# Altium footprint library PcbLib1.PcbLib: 4 footprints
Each footprint in its own frame and in the unit in brackets; x right, y up, seen from the top. Pads: shape width x height; smd on the part's side, far side on the other; paste and mask are expansions set on the pad; w line width, h text height; cw(c..) or ccw(c..) is an arc to the next point about the centre after c.
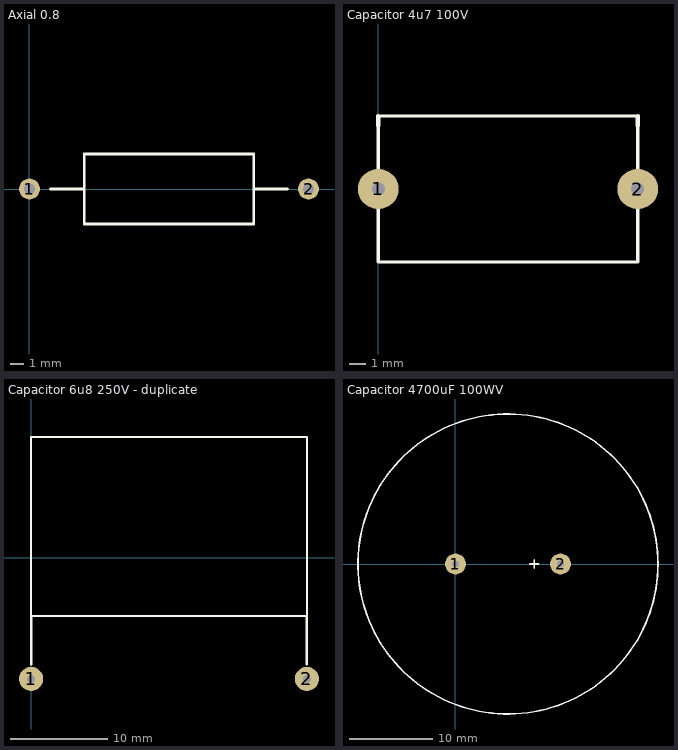
[diagram p0: the footprints below, top view; thin cyan lines are the x and y axes]

## Axial 0.8 [mm]
height 8
pads (2):
  round 1.5 hole 0.8: 1(0,0) 2(20,0)
Top Overlay:
  lines w0.2: 1.5,0 3.925,0 ; 16.075,0 18.5,0 ; 3.925,0 3.925,2.5 16.075,2.5 16.075,-2.5 3.925,-2.5 3.925,0

## Capacitor 4u7 100V [mm]
height 16
pads (2):
  round 2.5 hole 0.8: 1(0,-12.5) 2(16,-12.5)
Top Overlay:
  lines w0.2: 0,-17 0,-11.4 0,-8 16,-8 16,-17 0,-17
  lines w0.254: 0,-8.6 0,-8 ; 16,-8.6 16,-8

## Capacitor 6u8 250V - duplicate [mm]
height 11
pads (2):
  round 2.5 hole 0.8: 1(0,-12.5) 2(28.5,-12.5)
Top Overlay:
  lines w0.2: 0,-6 28.5,-6 28.5,-2.5 28.5,12.5 0,12.5 0,0 0,-6
  lines w0.254: 0,-11 0,-6 ; 28.5,-11 28.5,-6

## Capacitor 4700uF 100WV [mm]
height 41
pads (2):
  round 2.5 hole 0.8: 1(0,0) 2(12.6,0)
Top Overlay:
  circle w0.2: c6.3,0 r18
  lines w0.2: 8.942,0 9.958,0 ; 9.45,-0.508 9.45,0.508